# Altium schematic symbol library SCH - RF - AMPLIFIER - Qorvo SGL0622Z.SCHLIB: 1 symbol
Pins are listed as number, name and electrical type; pins without a type are passive.

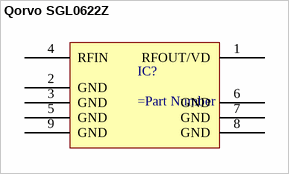
[diagram p0: symbol Qorvo SGL0622Z]

## Qorvo SGL0622Z
designator IC?
pins: 1 RFOUT/VD, 2 GND, 3 GND, 4 RFIN, 5 GND, 6 GND, 7 GND, 8 GND, 9 GND